# EAGLE library part PINHD-2X11_MEB12S_MODULSEITE (library con-MEB)
PIN HEADER
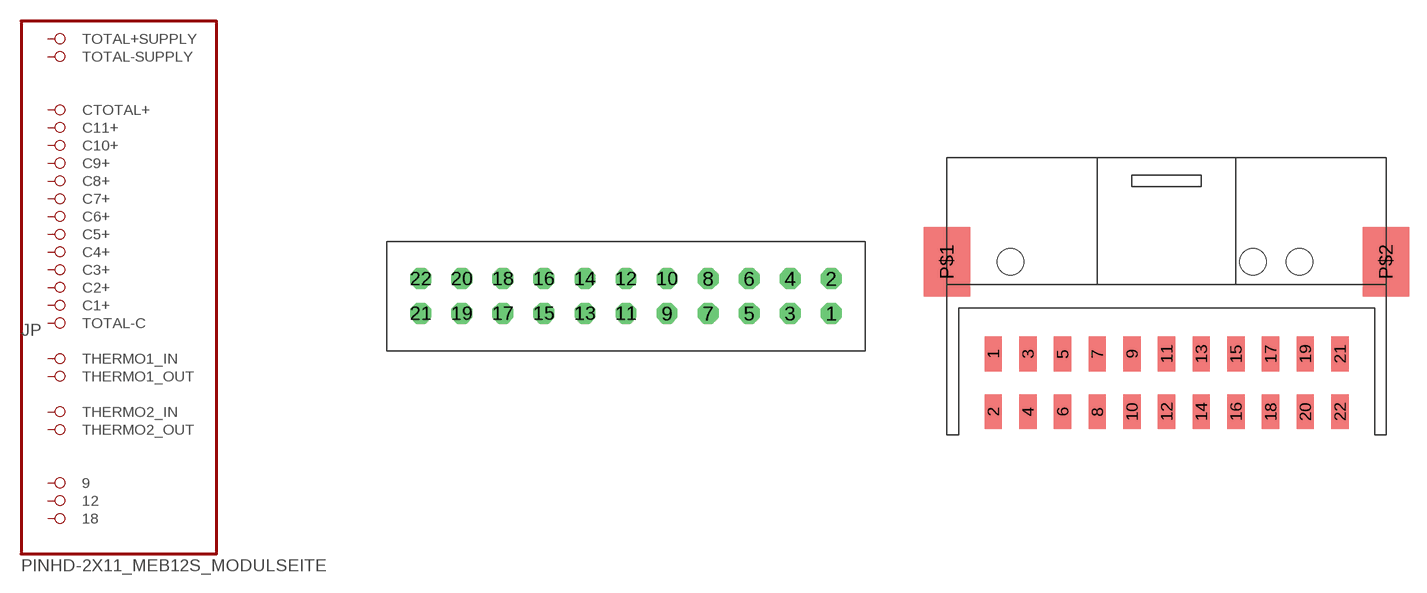
[diagram p2: symbol with the pads of 2X11_MEB12S_MODULSEITE; footprints 2X11_MEB12S_MODULSEITE, 2X11_MEB12S_MODULSEITE_SMD]

Designator prefix JP

## PINHD-2X11_MEB12S_MODULSEITE_THT  [2X11_MEB12S_MODULSEITE]
1  THERMO1_IN  pas
2  THERMO2_IN  pas
3  THERMO1_OUT  pas
4  THERMO2_OUT  pas
5  9  pas
6  12  pas
7  TOTAL-SUPPLY  pas
8  18  pas
9  TOTAL-C  pas
10  C1+  pas
11  C2+  pas
12  C3+  pas
13  C4+  pas
14  C5+  pas
15  C6+  pas
16  C7+  pas
17  C8+  pas
18  C9+  pas
19  C10+  pas
20  C11+  pas
21  CTOTAL+  pas
22  TOTAL+SUPPLY  pas

## PINHD-2X11_MEB12S_MODULSEITE_SMD  [2X11_MEB12S_MODULSEITE_SMD]
Pads as for 2X11_MEB12S_MODULSEITE

## Footprint 2X11_MEB12S_MODULSEITE (pad centres in mm)
VW BMS connector footprint THT version of VW MEB BMS connector
drill 1.016 octagon: 1 15,-1.27; 2 15,1.27; 3 12,-1.27; 4 12,1.27; 5 9,-1.27; 6 9,1.27; 7 6,-1.27; 8 6,1.27; 9 3,-1.27; 10 3,1.27; 11 0,-1.27; 12 0,1.27; 13 -3,-1.27; 14 -3,1.27; 15 -6,-1.27; 16 -6,1.27; 17 -9,-1.27; 18 -9,1.27; 19 -12,-1.27; 20 -12,1.27; 21 -15,-1.27; 22 -15,1.27

## Footprint 2X11_MEB12S_MODULSEITE_SMD (pad centres in mm)
VW BMS connector footprint SMD version of VW MEB BMS connector
smd 1.5 x 3: 1 -15,0; 2 -15,-5; 3 -12,0; 4 -12,-5; 5 -9,0; 6 -9,-5; 7 -6,0; 8 -6,-5; 9 -3,0; 10 -3,-5; 11 0,0; 12 0,-5; 13 3,0; 14 3,-5; 15 6,0; 16 6,-5; 17 9,0; 18 9,-5; 19 12,0; 20 12,-5; 21 15,0; 22 15,-5
smd 4 x 6: P$1 -19,8; P$2 19,8
hole 2.3 at -13.5,8
hole 2.3 at 7.5,8
hole 2.3 at 11.5,8